# Altium footprint library QFN_DFN.PcbLib: 23 footprints (part 2 of 2)
Each footprint in its own frame and in the unit in brackets; x right, y up, seen from the top. Pads: shape width x height; smd on the part's side, far side on the other; paste and mask are expansions set on the pad; w line width, h text height; cw(c..) or ccw(c..) is an arc to the next point about the centre after c.
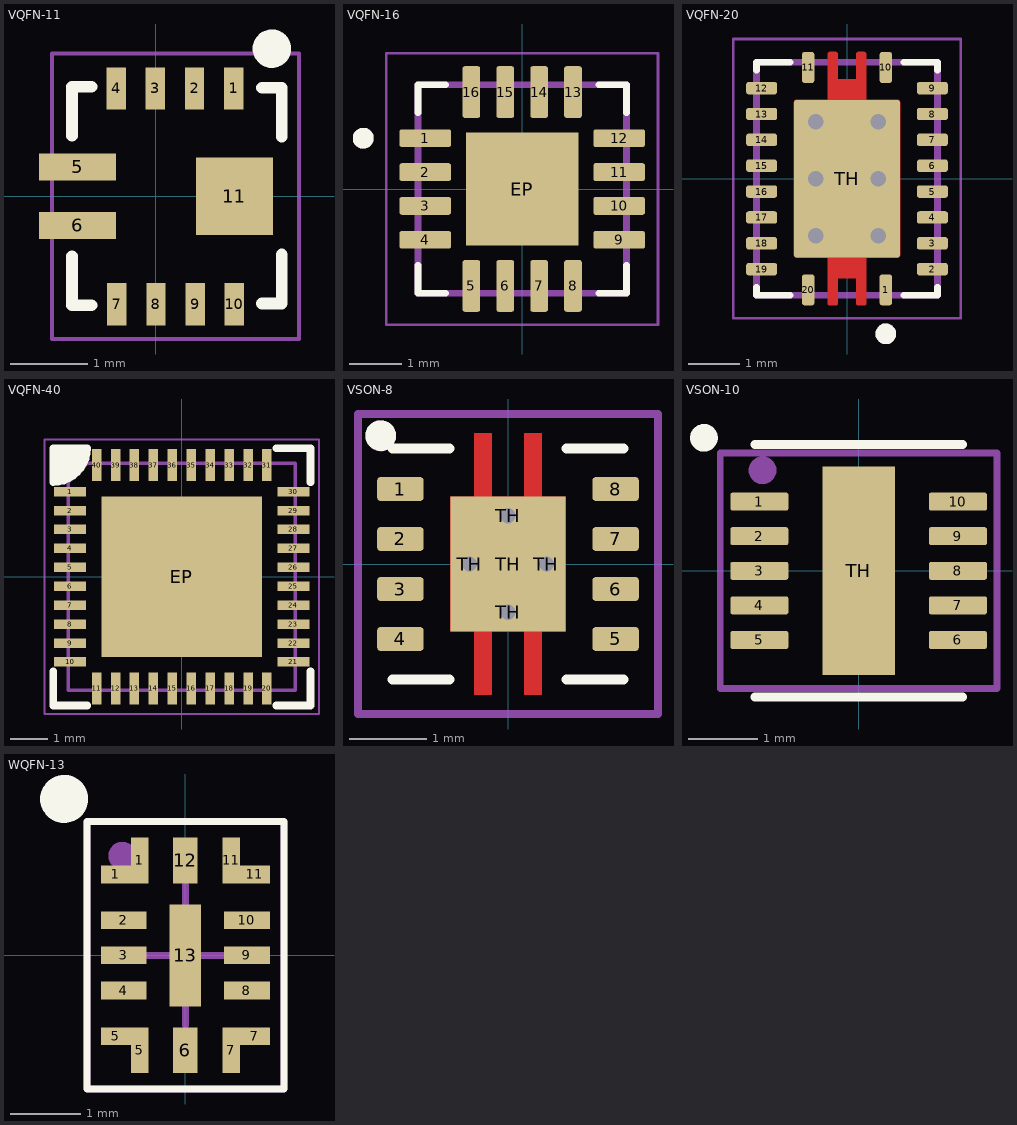
[diagram p1: the footprints below, top view; thin cyan lines are the x and y axes]

## VQFN-11 [mm]
pads (11):
  rect 0.25x0.55 smd: 1(1.008,1.397) 2(0.5,1.397) 3(-0.008,1.397) 4(-0.516,1.397) 7(-0.508,-1.397) 8(0,-1.397) 9(0.508,-1.397) 10(1.016,-1.397)
  rect 1x0.35 smd: 5(-1.016,0.381) 6(-1.015,-0.377)
  rect 1x1 smd: 11(1.016,0)
Top Overlay:
  circle w0.25: c1.503,1.914 r0.125
  lines w0.152: -1.088,-0.779 -1.088,-1.414 -0.834,-1.414 ; -1.088,0.783 -1.088,1.418 -0.834,1.418 ; 1.376,-1.388 1.63,-1.388 1.63,-0.753 ; 1.376,1.406 1.63,1.406 1.63,0.771
Top Assembly:
  lines w0.05: -1.346,-1.85 1.854,-1.85 1.854,1.85 -1.346,1.85 -1.346,-1.85
3D body: height 1, standoff 0.05, extent -0.796,-1.3 1.304,1.3

## VQFN-16 [mm]
height 1.2
pads (17):
  rrect25% 0.99x0.34 smd: 1(-1.86,0.975) 2(-1.86,0.325) 3(-1.86,-0.325) 4(-1.86,-0.975) 9(1.86,-0.975) 10(1.86,-0.325) 11(1.86,0.325) 12(1.86,0.975)
  rrect25% 0.34x0.99 smd: 5(-0.975,-1.86) 6(-0.325,-1.86) 7(0.325,-1.86) 8(0.975,-1.86) 13(0.975,1.86) 14(0.325,1.86) 15(-0.325,1.86) 16(-0.975,1.86)
  rect 2.16x2.16 smd paste-2: EP(0,0)
Top Overlay:
  circle w0.2: c-3.05,0.975 r0.1
  lines w0.127: -2,-1.465 -2,-2 -1.465,-2 ; -2,1.465 -2,2 -1.465,2 ; 1.465,-2 2,-2 2,-1.465 ; 1.465,2 2,2 2,1.465
Top Paste:
  region: 0.68,-0.68 -0.68,-0.68 -0.68,0.68 0.68,0.68
Top Assembly:
  circle w0.2: c-3.05,0.975 r0.1
  lines w0.127: -2,-2 -2,2 2,2 2,-2 -2,-2
Top Courtyard (Mech15):
  lines w0.05: -2.605,-2.605 -2.605,2.605 2.605,2.605 2.605,-2.605 -2.605,-2.605
3D body "ALSRobot-QFN16 4x4.step": height 0.92, standoff 0, extent -2,-2 2,2

## VQFN-20 [mm]
height 1.2
pads (21):
  rrect42% 0.24x0.6 smd: 1(0.75,-2.15) 10(0.75,2.15) 11(-0.75,2.15) 20(-0.75,-2.15)
  rrect42% 0.6x0.24 smd: 2(1.65,-1.75) 3(1.65,-1.25) 4(1.65,-0.75) 5(1.65,-0.25) 6(1.65,0.25) 7(1.65,0.75) 8(1.65,1.25) 9(1.65,1.75) 12(-1.65,1.75) 13(-1.65,1.25) 14(-1.65,0.75) 15(-1.65,0.25) 16(-1.65,-0.25) 17(-1.65,-0.75) 18(-1.65,-1.25) 19(-1.65,-1.75)
  rrect5% 2.05x3.05 smd paste-3: TH(0,0)
via 0.6,0 diameter 0.6 hole 0.3
via -0.6,0 diameter 0.6 hole 0.3
via -0.6,-1.1 diameter 0.6 hole 0.3
via 0.6,-1.1 diameter 0.6 hole 0.3
via 0.6,1.1 diameter 0.6 hole 0.3
via -0.6,1.1 diameter 0.6 hole 0.3
Top Layer:
  region: 380 vertices and 0 holes, not listed, extent -1.025,-2.45 1.025,2.45
Top Overlay:
  circle w0.2: c0.75,-3 r0.1
  lines w0.127: -1.75,-2.1 -1.75,-2.25 -1.1,-2.25 ; -1.75,2.1 -1.75,2.25 -1.1,2.25 ; 1.1,-2.25 1.75,-2.25 1.75,-2.1 ; 1.1,2.25 1.75,2.25 1.75,2.1
Top Paste:
  drawing of 8 lines, arcs and shapes, not listed
Top Solder:
  drawing of 1 lines, arcs and shapes, not listed
Top Assembly:
  circle w0.2: c0.75,-3 r0.1
  lines w0.127: -1.75,-2.25 -1.75,2.25 1.75,2.25 1.75,-2.25 -1.75,-2.25
Top Courtyard (Mech15):
  lines w0.05: -2.2,-2.7 2.2,-2.7 2.2,2.7 -2.2,2.7 -2.2,-2.7
3D body "User Library-20-VQFN (3_5x4_5).STEP": height 0.85, standoff -0.05, extent -1.76,-2.26 1.76,2.26

## VQFN-40 [mm]
height 1.75
pads (41):
  rect 0.85x0.25 smd: 1(-2.95,2.25) 2(-2.95,1.75) 3(-2.95,1.25) 4(-2.95,0.75) 5(-2.95,0.25) 6(-2.95,-0.25) 7(-2.95,-0.75) 8(-2.95,-1.25) 9(-2.95,-1.75) 10(-2.95,-2.25) 21(2.95,-2.25) 22(2.95,-1.75) 23(2.95,-1.25) 24(2.95,-0.75) 25(2.95,-0.25) 26(2.95,0.25) 27(2.95,0.75) 28(2.95,1.25) 29(2.95,1.75) 30(2.95,2.25)
  rect 0.25x0.85 smd: 11(-2.25,-2.95) 12(-1.75,-2.95) 13(-1.25,-2.95) 14(-0.75,-2.95) 15(-0.25,-2.95) 16(0.25,-2.95) 17(0.75,-2.95) 18(1.25,-2.95) 19(1.75,-2.95) 20(2.25,-2.95) 31(2.25,2.95) 32(1.75,2.95) 33(1.25,2.95) 34(0.75,2.95) 35(0.25,2.95) 36(-0.25,2.95) 37(-0.75,2.95) 38(-1.25,2.95) 39(-1.75,2.95) 40(-2.25,2.95)
  rect 4.25x4.25 smd: EP(0,0)
Top Overlay:
  rectangle: -3.4,2.8 -2.6,3.4
  rectangle: -3.4,2.6 -2.8,3.4
  lines w0.2: -3.4,-2.5 -3.4,-3.4 -2.5,-3.4 ; 2.5,-3.4 3.4,-3.4 3.4,-2.5 ; 2.5,3.4 3.4,3.4 3.4,2.5 ; -3.4,2.5 ccw(c-3.4,3.4) -2.5,3.4 -3.4,3.4 -3.4,2.5
Top Assembly:
  lines w0.1: -3,2.5 -2.5,3 ; -3,-3 3,-3 3,3 -3,3 -3,-3
Top Courtyard (Mech15):
  lines w0.05: -3.625,-3.625 3.625,-3.625 3.625,3.625 -3.625,3.625 -3.625,-3.625
3D body "MSP430FR5848IRHAT.stp": height 1, standoff 0, extent -3,-3 3,3

## VSON-8 [mm]
pads (13):
  rrect25% 0.6x0.31 smd mask+0: 1(-1.4,0.975) 2(-1.4,0.325) 3(-1.4,-0.325) 4(-1.4,-0.975) 5(1.4,-0.975) 6(1.4,-0.325) 7(1.4,0.325) 8(1.4,0.975)
  round 0.4 hole 0.2 mask+0: TH(-0.5,0) TH(0,-0.625) TH(0,0.625) TH(0.5,0)
  rect 1.5x1.75 smd paste-2 mask+0: TH(0,0)
Top Layer:
  region: 0.44,0.875 0.75,0.875 0.75,-0.875 0.44,-0.875 0.44,-1.7 0.21,-1.7 0.21,-0.875 -0.21,-0.875 -0.21,-1.7 -0.44,-1.7 -0.44,-0.875 -0.75,-0.875 -0.75,0.875 -0.44,0.875 -0.44,1.7 -0.21,1.7 -0.21,0.875 0.21,0.875 0.21,1.7 0.44,1.7
Top Overlay:
  circle w0.2: c-1.654,1.669 r0.1
  lines w0.127: -1.5,-1.5 -0.76,-1.5 ; -1.5,1.5 -0.76,1.5 ; 0.76,-1.5 1.5,-1.5 ; 0.76,1.5 1.5,1.5
Top Paste:
  region: -0.21,-1.7 -0.44,-1.7 -0.44,-0.975 -0.21,-0.975
  region: 0.44,-1.7 0.21,-1.7 0.21,-0.975 0.44,-0.975
  region: 0.44,0.975 0.21,0.975 0.21,1.7 0.44,1.7
  region: -0.21,0.975 -0.44,0.975 -0.44,1.7 -0.21,1.7
  region: 0.67,-0.775 -0.67,-0.775 -0.67,0.775 0.67,0.775
Top Solder:
  region: 1.77,-1.2 1.03,-1.2 1.03,-0.75 1.77,-0.75
  region: 1.77,-0.55 1.03,-0.55 1.03,-0.1 1.77,-0.1
  region: 1.77,0.1 1.03,0.1 1.03,0.55 1.77,0.55
  region: -1.03,-1.2 -1.77,-1.2 -1.77,-0.75 -1.03,-0.75
  region: -1.03,-0.55 -1.77,-0.55 -1.77,-0.1 -1.03,-0.1
  region: -1.03,0.1 -1.77,0.1 -1.77,0.55 -1.03,0.55
  region: 1.77,0.75 1.03,0.75 1.03,1.2 1.77,1.2
  region: -1.03,0.75 -1.77,0.75 -1.77,1.2 -1.03,1.2
  region: 0.51,0.945 0.82,0.945 0.82,-0.945 0.51,-0.945 0.51,-1.77 0.14,-1.77 0.14,-0.945 -0.14,-0.945 -0.14,-1.77 -0.51,-1.77 -0.51,-0.945 -0.82,-0.945 -0.82,0.945 -0.51,0.945 -0.51,1.77 -0.14,1.77 -0.14,0.945 0.14,0.945 0.14,1.77 0.51,1.77
Top Assembly:
  circle w0.2: c-1.654,1.665 r0.1
  lines w0.1: -1.95,-1.95 1.95,-1.95 1.95,1.95 -1.95,1.95 -1.95,-1.95
Top Courtyard (Mech15):
  lines w0.1: -1.95,-1.95 -1.95,1.95 1.95,1.95 1.95,-1.95 -1.95,-1.95
3D body "step_temp.STEP": height 1, standoff 0, extent -1.5,-1.5 1.5,1.5

## VSON-10 [mm]
pads (11):
  rrect25% 0.84x0.26 smd: 1(-1.435,1) 2(-1.435,0.5) 3(-1.435,0) 4(-1.435,-0.5) 5(-1.435,-1) 6(1.435,-1) 7(1.435,-0.5) 8(1.435,0) 9(1.435,0.5) 10(1.435,1)
  rect 1.05x3.01 smd paste-3: TH(0,0)
Top Overlay:
  circle w0.2: c-2.236,1.922 r0.1
  lines w0.127: -1.5,-1.825 1.5,-1.825 ; -1.5,1.825 1.5,1.825
Top Paste:
  region: 0.33,-0.95 -0.33,-0.95 -0.33,0.95 0.33,0.95
Top Assembly:
  circle w0.2: c-1.389,1.453 r0.1
  lines w0.1: -2,-1.7 2,-1.7 2,1.7 -2,1.7 -2,-1.7
Top Courtyard (Mech15):
  lines w0.1: -2,-1.7 2,-1.7 2,1.7 -2,1.7 -2,-1.7
3D body "step_temp.STEP": height 1, standoff 0, extent -1.5,-1.5 1.5,1.5

## WQFN-13 [mm]
pads (17):
  rect 0.425x0.25 smd: 1(-0.988,1.15) 5(-0.988,-1.15) 7(0.988,-1.15) 11(0.988,1.15)
  rect 0.25x0.65 smd: 1(-0.65,1.35) 5(-0.65,-1.35) 7(0.65,-1.35) 11(0.65,1.35)
  rect 0.65x0.25 smd: 2(-0.875,0.5) 3(-0.875,0) 4(-0.875,-0.5) 8(0.875,-0.5) 9(0.875,0) 10(0.875,0.5)
  rect 0.35x0.65 smd: 6(0,-1.35) 12(0,1.35)
  rect 0.45x1.45 smd: 13(0,0)
Top Overlay:
  circle w0.4: c-1.724,2.224 r0.141
  lines w0.1: -1.4,-1.9 1.4,-1.9 1.4,1.9 -1.4,1.9 -1.4,-1.9
Top Assembly:
  circle w0.2: c-0.895,1.415 r0.1
  lines w0.1: -1,0 1,0 ; 0,-1 0,1 ; -1.4,-1.9 -1.4,1.9 1.4,1.9 1.4,-1.9 -1.4,-1.9
Top Courtyard (Mech15):
  lines w0.1: -1.4,-1.9 1.4,-1.9 1.4,1.9 -1.4,1.9 -1.4,-1.9
3D body "LM60430ARPKR.stp": height 0.8, standoff 0, extent -1,-1.5 1,1.5